# Altium schematic symbol library Switches.SchLib: 2 symbols
Pins are listed as number, name and electrical type; pins without a type are passive.

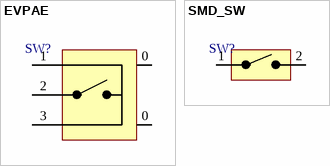
[diagram p0: symbols EVPAE to SMD_SW]

## EVPAE
designator SW?  (value not drawn)
=description
footprint EVPAEJB2A
pins: 0, 0, 1, 2, 3

## SMD_SW
designator SW?  (value not drawn)
=description
pins: 1, 2